# EAGLE library part STM32F103VCT6_BOARD_DEVICE (library vct6_board)
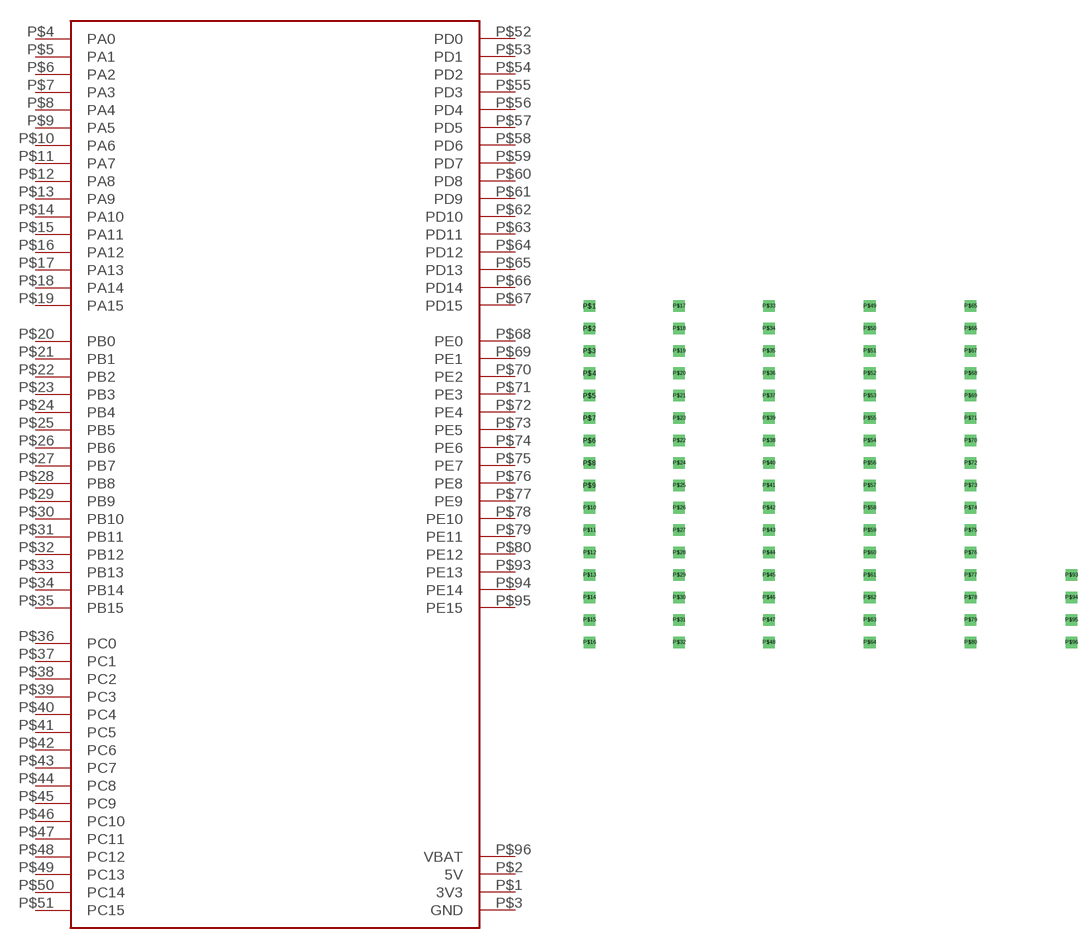
[diagram p0: symbol with the pads of STM32F103VCT6_PACK; footprint STM32F103VCT6_PACK]

Designator prefix IC

## STM32F103VCT6_BOARD_DEVICE  [STM32F103VCT6_PACK]
P$1  3V3
P$2  5V
P$3  GND
P$4  PA0
P$5  PA1
P$6  PA2
P$7  PA3
P$8  PA4
P$9  PA5
P$10  PA6
P$11  PA7
P$12  PA8
P$13  PA9
P$14  PA10
P$15  PA11
P$16  PA12
P$17  PA13
P$18  PA14
P$19  PA15
P$20  PB0
P$21  PB1
P$22  PB2
P$23  PB3
P$24  PB4
P$25  PB5
P$26  PB6
P$27  PB7
P$28  PB8
P$29  PB9
P$30  PB10
P$31  PB11
P$32  PB12
P$33  PB13
P$34  PB14
P$35  PB15
P$36  PC0
P$37  PC1
P$38  PC2
P$39  PC3
P$40  PC4
P$41  PC5
P$42  PC6
P$43  PC7
P$44  PC8
P$45  PC9
P$46  PC10
P$47  PC11
P$48  PC12
P$49  PC13
P$50  PC14
P$51  PC15
P$52  PD0
P$53  PD1
P$54  PD2
P$55  PD3
P$56  PD4
P$57  PD5
P$58  PD6
P$59  PD7
P$60  PD8
P$61  PD9
P$62  PD10
P$63  PD11
P$64  PD12
P$65  PD13
P$66  PD14
P$67  PD15
P$68  PE0
P$69  PE1
P$70  PE2
P$71  PE3
P$72  PE4
P$73  PE5
P$74  PE6
P$75  PE7
P$76  PE8
P$77  PE9
P$78  PE10
P$79  PE11
P$80  PE12
P$93  PE13
P$94  PE14
P$95  PE15
P$96  VBAT

## Footprint STM32F103VCT6_PACK (pad centres in mm)
drill 0.8 square: P$1 -15.24,7.62; P$2 -15.24,5.08; P$3 -15.24,2.54; P$4 -15.24,0; P$5 -15.24,-2.54; P$6 -15.24,-7.62; P$7 -15.24,-5.08; P$8 -15.24,-10.16; P$9 -15.24,-12.7; P$10 -15.24,-15.24; P$11 -15.24,-17.78; P$12 -15.24,-20.32; P$13 -15.24,-22.86; P$14 -15.24,-25.4; P$15 -15.24,-27.94; P$16 -15.24,-30.48; P$17 -5.08,7.62; P$18 -5.08,5.08; P$19 -5.08,2.54; P$20 -5.08,0; P$21 -5.08,-2.54; P$22 -5.08,-7.62; P$23 -5.08,-5.08; P$24 -5.08,-10.16; P$25 -5.08,-12.7; P$26 -5.08,-15.24; P$27 -5.08,-17.78; P$28 -5.08,-20.32; P$29 -5.08,-22.86; P$30 -5.08,-25.4; P$31 -5.08,-27.94; P$32 -5.08,-30.48; P$33 5.08,7.62; P$34 5.08,5.08; P$35 5.08,2.54; P$36 5.08,0; P$37 5.08,-2.54; P$38 5.08,-7.62; P$39 5.08,-5.08; P$40 5.08,-10.16; P$41 5.08,-12.7; P$42 5.08,-15.24; P$43 5.08,-17.78; P$44 5.08,-20.32; P$45 5.08,-22.86; P$46 5.08,-25.4; P$47 5.08,-27.94; P$48 5.08,-30.48; P$49 16.51,7.62; P$50 16.51,5.08; P$51 16.51,2.54; P$52 16.51,0; P$53 16.51,-2.54; P$54 16.51,-7.62; P$55 16.51,-5.08; P$56 16.51,-10.16; P$57 16.51,-12.7; P$58 16.51,-15.24; P$59 16.51,-17.78; P$60 16.51,-20.32; P$61 16.51,-22.86; P$62 16.51,-25.4; P$63 16.51,-27.94; P$64 16.51,-30.48; P$65 27.94,7.62; P$66 27.94,5.08; P$67 27.94,2.54; P$68 27.94,0; P$69 27.94,-2.54; P$70 27.94,-7.62; P$71 27.94,-5.08; P$72 27.94,-10.16; P$73 27.94,-12.7; P$74 27.94,-15.24; P$75 27.94,-17.78; P$76 27.94,-20.32; P$77 27.94,-22.86; P$78 27.94,-25.4; P$79 27.94,-27.94; P$80 27.94,-30.48; P$93 39.37,-22.86; P$94 39.37,-25.4; P$95 39.37,-27.94; P$96 39.37,-30.48